# Altium schematic symbol library NVHL027N_mosfet.SchLib: 1 symbol
Pins are listed as number, name and electrical type; pins without a type are passive.

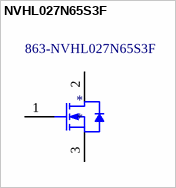
[diagram p0: symbol NVHL027N65S3F]

## NVHL027N65S3F
designator *  Supplier Part Number 1: 863-NVHL027N65S3F
Manufacturer: ON Semiconductor; Manufacturer Part Number: NVHL027N65S3F; Supplier 1: Mouser; Stock 1: 390; Pricing 1: 1 = 11.86000, 10 = 10.91000, 25 = 10.46000, 50 = 10.45000, 100 = 9.21000, 250 = 8.76000 (USD); RoHS: No
footprint NVHL027N (MOSFET_TO-247)
pins: 1 GATE, 2 DRAIN, 3 SOURCE